# Altium schematic symbol library SnapEDAsch.SchLib: 1 symbol
Pins are listed as number, name and electrical type; pins without a type are passive.

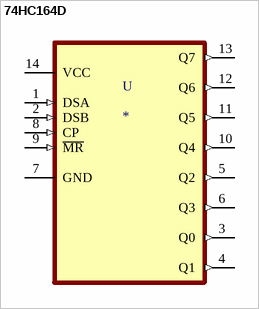
[diagram p0: symbol 74HC164D]

## 74HC164D
designator U
Shift Shift Register 1 Element 8 Bit 14-SOP; MF: Toshiba Semiconductor; MP: 74HC164D; Package: SOP-14 Nexperia; DigiKey-Purchase-URL: https://snapeda.com/shop?store=DigiKey&id=2732286; Price: None; Availability: Unavailable; SnapEDA_Link: https://www.snapeda.com/parts/74HC164D/Toshiba%20Semiconductor%20and%20Storage/view-part/2732286/?ref=snap; Value: *
footprint SOIC127P600X175-14N
pins: 1 DSA (in), 2 DSB (in), 3 Q0 (out), 4 Q1 (out), 5 Q2 (out), 6 Q3 (out), 7 GND, 8 CP (in), 9 ~{MR} (in), 10 Q4 (out), 11 Q5 (out), 12 Q6 (out), 13 Q7 (out), 14 VCC (power)